# Altium footprint library std.PcbLib: 32 footprints (part 2 of 2)
Each footprint in its own frame and in the unit in brackets; x right, y up, seen from the top. Pads: shape width x height; smd on the part's side, far side on the other; paste and mask are expansions set on the pad; w line width, h text height; cw(c..) or ccw(c..) is an arc to the next point about the centre after c.
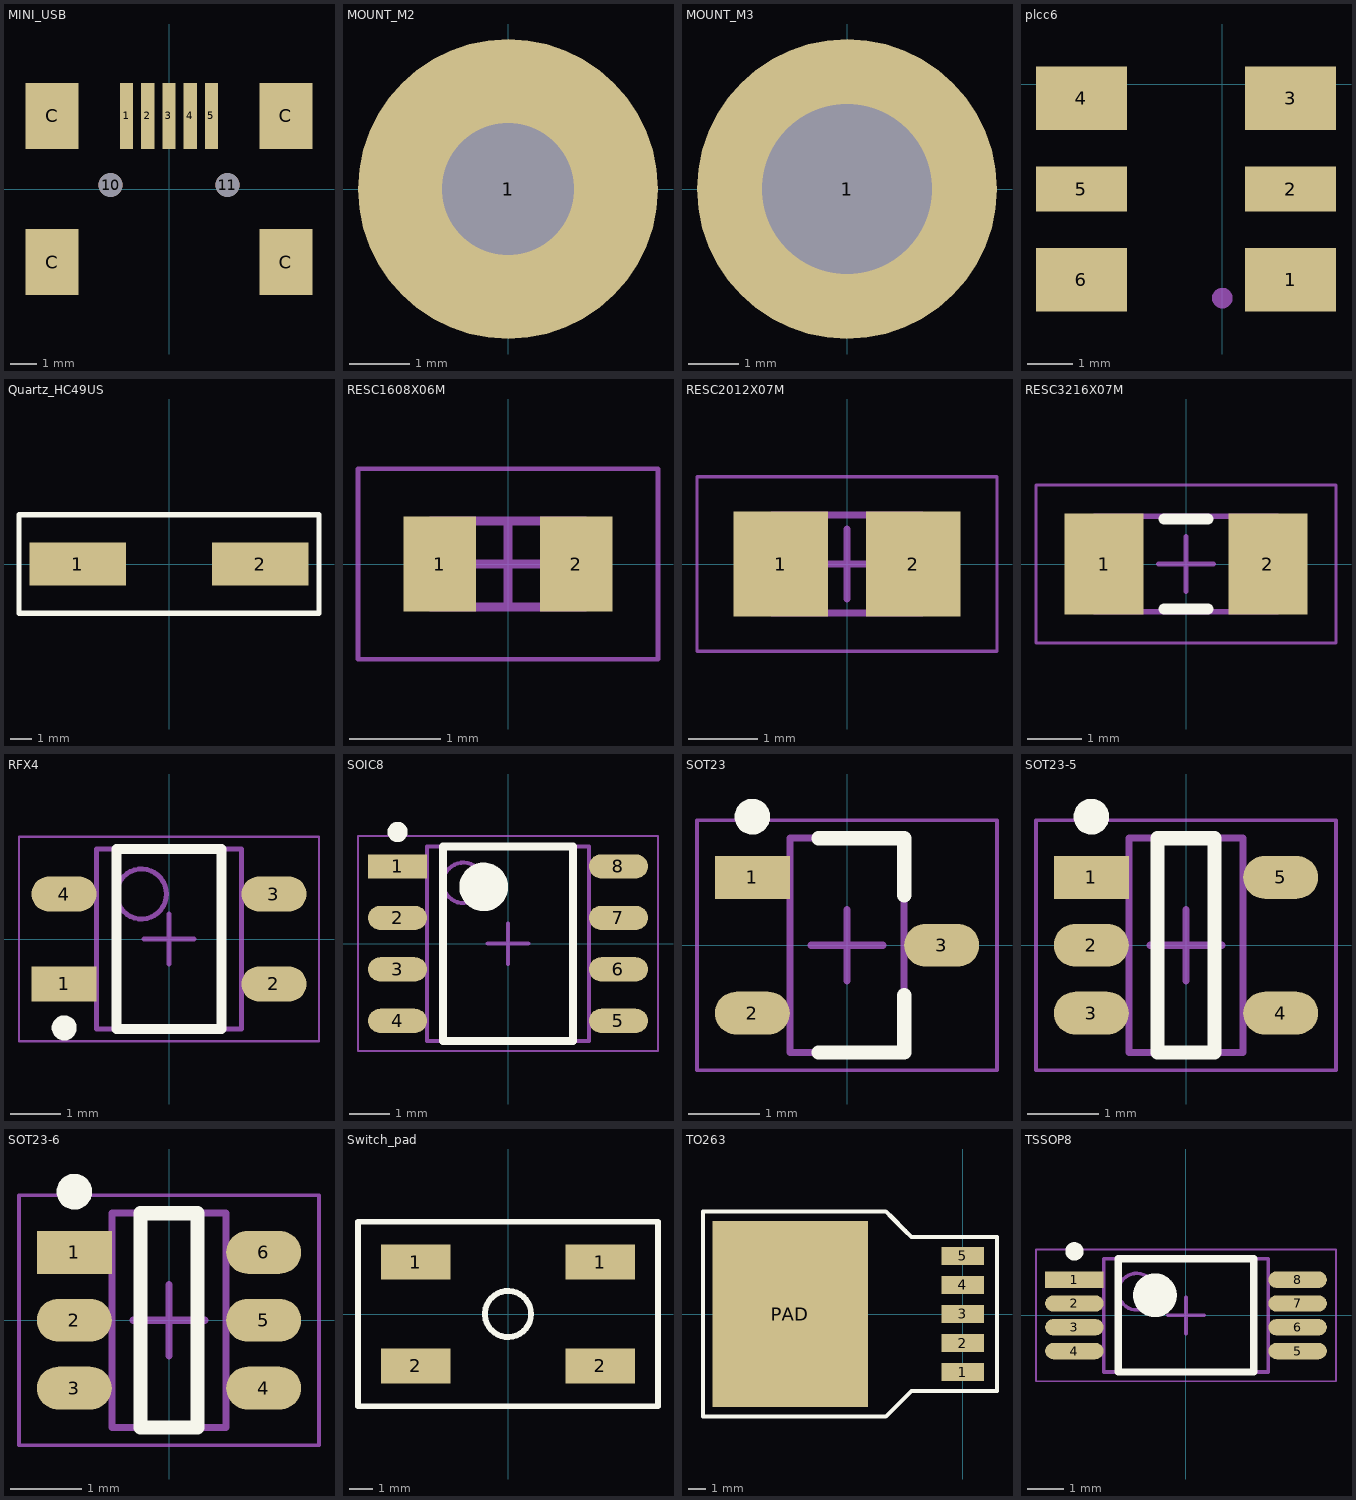
[diagram p1: the footprints below, top view; thin cyan lines are the x and y axes]

## MINI_USB [mm]
pads (11):
  rect 0.5x2.5 smd: 1(-1.6,2.75) 2(-0.8,2.75) 3(0,2.75) 4(0.8,2.75) 5(1.6,2.75)
  round 0.9 hole 0.9: 10(-2.2,0.15) 11(2.2,0.15)
  rect 2x2.5 smd: C(-4.4,-2.75) C(-4.4,2.75) C(4.4,-2.75) C(4.4,2.75)

## MOUNT_M2 [mm]
pads (1):
  round 5 hole 2.2: 1(0,0)
3D body: height 0, standoff -8, extent -1,-0.999 1,0.999
3D body: height 2, standoff 0, extent -2.25,-2.249 2.25,2.25

## MOUNT_M3 [mm]
pads (1):
  round 6 hole 3.4: 1(0,0)
3D body: height 3, standoff 0, extent -2.75,-2.749 2.75,2.749
3D body: height 0, standoff -8, extent -1.5,-1.499 1.5,1.499

## plcc6 [mm]
pads (6):
  rect 2x1.4 smd: 1(1.5,-4.3) 3(1.5,-0.3) 4(-3.1,-0.3) 6(-3.1,-4.3)
  rect 2x1 smd: 2(1.5,-2.3) 5(-3.1,-2.3)
Mechanical 1:
  circle w0.254: c0,-4.7 r0.1
3D body: height 1.5, standoff 0, extent -2,-5.1 0.4,0.5

## Quartz_HC49US [mm] "16MHz kristall"
height 4.5
pads (2):
  rect 4.5x2 smd: 1(-4.25,0) 2(4.25,0)
Top Overlay:
  lines w0.254: -7,-2.3 7,-2.3 7,2.3 -7,2.3 -7,-2.3

## RESC1608X06M [mm] "Chip Resistor, 2-Leads, Body 1,60x0,82mm, IPC Low Density"
height 0.6
pads (2):
  rect 0.8x1.05 smd: 1(-0.75,0) 2(0.75,0)
Mechanical 13:
  lines w0.1: -0.85,-0.475 -0.85,0.475 0.85,0.475 0.85,-0.475 -0.85,-0.475
Mechanical 15:
  lines w0.05: -1.65,-1.05 -1.65,1.05 1.65,1.05 1.65,-1.05 -1.65,-1.05
  lines w0.1: -0.475,0 0.475,0 ; 0,-0.475 0,0.475
3D body: height 0.6, standoff 0, extent -0.57,-0.475 0.57,0.475
3D body: height 0.6, standoff 0, extent -0.85,-0.475 -0.57,0.475
3D body: height 0.6, standoff 0, extent 0.57,-0.475 0.85,0.475

## RESC2012X07M [mm] "Chip Resistor, 2-Leads, Body 2,00x1,25mm, IPC Low Density"
height 0.65
pads (2):
  rect 1.35x1.5 smd: 1(-0.95,0) 2(0.95,0)
Mechanical 13:
  lines w0.1: -1.075,-0.7 -1.075,0.7 1.075,0.7 1.075,-0.7 -1.075,-0.7
Mechanical 15:
  lines w0.05: -2.15,-1.25 -2.15,1.25 2.15,1.25 2.15,-1.25 -2.15,-1.25
  lines w0.1: -0.5,0 0.5,0 ; 0,-0.5 0,0.5
3D body: height 0.65, standoff 0, extent -0.675,-0.7 0.675,0.7
3D body: height 0.65, standoff 0, extent -1.075,-0.7 -0.675,0.7
3D body: height 0.65, standoff 0, extent 0.675,-0.7 1.075,0.7

## RESC3216X07M [mm] "Chip Resistor, 2-Leads, Body 3,20x1,60mm, IPC Low Density"
height 0.71
pads (2):
  rect 1.45x1.85 smd: 1(-1.5,0) 2(1.5,0)
Top Overlay:
  lines w0.2: -0.4,-0.825 0.4,-0.825 ; -0.4,0.825 0.4,0.825
Mechanical 13:
  lines w0.1: -1.675,-0.875 -1.675,0.875 1.675,0.875 1.675,-0.875 -1.675,-0.875
Mechanical 15:
  lines w0.05: -2.75,-1.45 -2.75,1.45 2.75,1.45 2.75,-1.45 -2.75,-1.45
  lines w0.1: -0.5,0 0.5,0 ; 0,-0.5 0,0.5
3D body: height 0.71, standoff 0, extent -1.175,-0.875 1.175,0.875
3D body: height 0.71, standoff 0, extent -1.675,-0.875 -1.175,0.875
3D body: height 0.71, standoff 0, extent 1.175,-0.875 1.675,0.875

## RFX4 [mm] "SOP, 4-Leads, Body 3,40x2,70mm, Pitch 1,80mm, IPC Medium Density"
height 1.7
pads (4):
  rect 1.3x0.7 smd: 1(-2.1,-0.9)
  oval 1.3x0.7 smd: 2(2.1,-0.9) 3(2.1,0.9) 4(-2.1,0.9)
Top Overlay:
  circle w0.25: c-2.095,-1.778 r0.125
  lines w0.2: -1.05,-1.8 -1.05,1.8 1.05,1.8 1.05,-1.8 -1.05,-1.8
Mechanical 13:
  circle w0.1: c-0.55,0.9 r0.5
  lines w0.1: -1.45,-1.8 -1.45,1.8 1.45,1.8 1.45,-1.8 -1.45,-1.8
Mechanical 15:
  lines w0.05: -3,-2.05 -3,2.05 3,2.05 3,-2.05 -3,-2.05
  lines w0.1: -0.5,0 0.5,0 ; 0,-0.5 0,0.5
3D body: height 1.7, standoff 0.1, extent -1.45,-1.8 1.45,1.8

## SOIC8 [mm] "SOIC, 8-Leads, Body 4,89x3,94mm, Pitch 1,27mm, IPC Medium Density"
height 1.73
pads (8):
  rect 1.45x0.6 smd: 1(-2.725,1.905)
  oval 1.45x0.6 smd: 2(-2.725,0.635) 3(-2.725,-0.635) 4(-2.725,-1.905) 5(2.725,-1.905) 6(2.725,-0.635) 7(2.725,0.635) 8(2.725,1.905)
Top Overlay:
  circle w0.6: c-0.6,1.4 r0.3
  circle w0.25: c-2.725,2.755 r0.125
  lines w0.2: -1.6,-2.4 1.6,-2.4 1.6,2.4 -1.6,2.4 -1.6,-2.4
Mechanical 13:
  circle w0.1: c-1.1,1.5 r0.5
  lines w0.1: -2,-2.4 2,-2.4 2,2.4 -2,2.4 -2,-2.4
Mechanical 15:
  lines w0.05: -3.7,-2.65 3.7,-2.65 3.7,2.65 -3.7,2.65 -3.7,-2.65
  lines w0.1: -0.5,0 0.5,0 ; 0,-0.5 0,0.5
3D body: height 1.73, standoff 0.1, extent -2,-2.4 2,2.4

## SOT23 [mm]
height 1.45
pads (3):
  rect 1.05x0.6 smd: 1(-1.325,0.95)
  oval 1.05x0.6 smd: 2(-1.325,-0.95) 3(1.325,0)
Top Overlay:
  circle w0.25: c-1.325,1.8 r0.125
  lines w0.2: -0.4,-1.5 0.8,-1.5 0.8,-0.7 ; -0.4,1.5 0.8,1.5 0.8,0.7
Mechanical 13:
  lines w0.1: -0.8,-1.5 -0.8,1.5 0.8,1.5 0.8,-1.5 -0.8,-1.5
Mechanical 15:
  lines w0.05: -2.1,-1.75 -2.1,1.75 2.1,1.75 2.1,-1.75 -2.1,-1.75
  lines w0.1: -0.5,0 0.5,0 ; 0,-0.5 0,0.5
3D body: height 1.45, standoff 0.05, extent -0.8,-1.5 0.8,1.5

## SOT23-5 [mm]
height 1.45
pads (5):
  rect 1.05x0.6 smd: 1(-1.325,0.95)
  oval 1.05x0.6 smd: 2(-1.325,0) 3(-1.325,-0.95) 4(1.325,-0.95) 5(1.325,0.95)
Top Overlay:
  circle w0.25: c-1.325,1.8 r0.125
  lines w0.2: -0.4,-1.5 -0.4,1.5 0.4,1.5 0.4,-1.5 -0.4,-1.5
Mechanical 13:
  lines w0.1: -0.8,-1.5 0.8,-1.5 0.8,1.5 -0.8,1.5 -0.8,-1.5
Mechanical 15:
  lines w0.05: -2.1,-1.75 2.1,-1.75 2.1,1.75 -2.1,1.75 -2.1,-1.75
  lines w0.1: -0.5,0 0.5,0 ; 0,-0.5 0,0.5
3D body: height 1.45, standoff 0.05, extent -0.8,-1.5 0.8,1.5

## SOT23-6 [mm]
height 1.45
pads (6):
  rect 1.05x0.6 smd: 1(-1.325,0.95)
  oval 1.05x0.6 smd: 2(-1.325,0) 3(-1.325,-0.95) 4(1.325,-0.95) 5(1.325,0) 6(1.325,0.95)
Top Overlay:
  circle w0.25: c-1.325,1.8 r0.125
  lines w0.2: -0.4,-1.5 -0.4,1.5 0.4,1.5 0.4,-1.5 -0.4,-1.5
Mechanical 13:
  lines w0.1: -0.8,-1.5 0.8,-1.5 0.8,1.5 -0.8,1.5 -0.8,-1.5
Mechanical 15:
  lines w0.05: -2.1,-1.75 2.1,-1.75 2.1,1.75 -2.1,1.75 -2.1,-1.75
  lines w0.1: -0.5,0 0.5,0 ; 0,-0.5 0,0.5
3D body: height 1.45, standoff 0.05, extent -0.8,-1.5 0.8,1.5

## Switch_pad [mm]
height 4
pads (4):
  rect 3x1.524 smd: 1(-4,2.25) 1(4,2.25) 2(-4,-2.25) 2(4,-2.25)
Top Overlay:
  circle w0.254: c0,0 r1
  lines w0.254: -6.5,-4 -6.5,4 6.5,4 6.5,-4 -6.5,-4

## TO263 [mm]
pads (6):
  rect 2.5x1.05 smd: 1(0,-3.4) 2(0,-1.7) 3(0,0) 4(0,1.7) 5(0,3.4)
  rect 9.1x10.9 smd: PAD(-10.1,0)
Top Overlay:
  lines w0.254: -15.2,-6 -15,-6 -4.5,-6 -3,-4.5 -1.75,-4.5 0.75,-4.5 2,-4.5 2,4.5 -3,4.5 -3.375,4.875 -4.125,5.625 -4.5,6 -15.2,6 -15.2,-6

## TSSOP8 [mm] "TSOP, 8-Leads, Body 3,00x4,40mm, Pitch 0,65mm, IPC Medium Density"
height 1.2
pads (8):
  rect 1.6x0.45 smd: 1(-3.05,0.975)
  oval 1.6x0.45 smd: 2(-3.05,0.325) 3(-3.05,-0.325) 4(-3.05,-0.975) 5(3.05,-0.975) 6(3.05,-0.325) 7(3.05,0.325) 8(3.05,0.975)
Top Overlay:
  circle w0.25: c-3.05,1.75 r0.125
  circle w0.6: c-0.85,0.55 r0.3
  lines w0.2: -1.85,-1.55 -1.85,1.55 1.85,1.55 1.85,-1.55 -1.85,-1.55
Mechanical 13:
  circle w0.1: c-1.35,0.65 r0.5
  lines w0.1: -2.25,-1.55 -2.25,1.55 2.25,1.55 2.25,-1.55 -2.25,-1.55
Mechanical 15:
  lines w0.05: -4.1,-1.8 -4.1,1.8 4.1,1.8 4.1,-1.8 -4.1,-1.8
  lines w0.1: -0.5,0 0.5,0 ; 0,-0.5 0,0.5
3D body: height 1.2, standoff 0.1, extent -2.25,-1.55 2.25,1.55